# EAGLE library part ACS712 (library acs712)
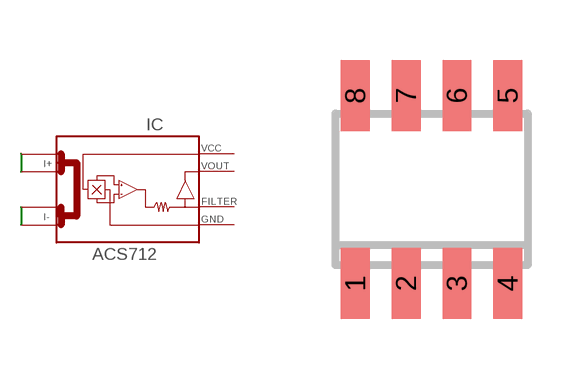
[diagram p0: symbol with the pads of SO08; footprint SO08]

Designator prefix IC

## ACS712  [SO08]
1  I+_0
2  I+_1
3  I-_0
4  I-_1
5  GND  pwr
6  FILTER
7  VOUT  out
8  VCC  pwr

## Footprint SO08 (pad centres in mm)
8 Lead SOIC Data Sheet No. PD60212 Rev A Source: www.irf.com .. ir2520.pdf
smd 0.72 x 1.78: 1 -1.905,-2.35; 2 -0.635,-2.35; 3 0.635,-2.35; 4 1.905,-2.35; 5 1.905,2.35; 6 0.635,2.35; 7 -0.635,2.35; 8 -1.905,2.35